# Altium footprint library ALA131C3.PcbLib: 1 footprints
Each footprint in its own frame and in the unit in brackets; x right, y up, seen from the top. Pads: shape width x height; smd on the part's side, far side on the other; paste and mask are expansions set on the pad; w line width, h text height; cw(c..) or ccw(c..) is an arc to the next point about the centre after c.
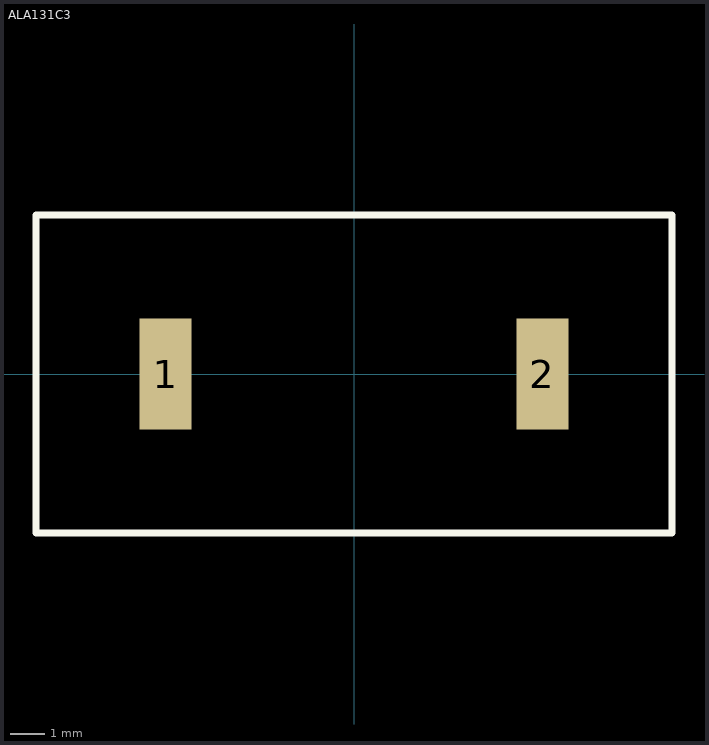
[diagram p0: the footprint, top view; thin cyan lines are the x and y axes]

## ALA131C3 [mm] "Multilayer Chip Antenna"
pads (2):
  rect 1.5x3.2 smd: 1(-5.45,0) 2(5.45,0)
Top Overlay:
  lines w0.2: -9.2,-4.6 9.2,-4.6 9.2,4.6 -9.2,4.6 -9.2,-4.6
3D body "ANT1204LL08R0870A.STEP": height 1.6, standoff 0, extent -6.05,-2.05 6.05,2.05